# Altium schematic symbol library EurrackParts.SchLib: 8 symbols
Pins are listed as number, name and electrical type; pins without a type are passive.

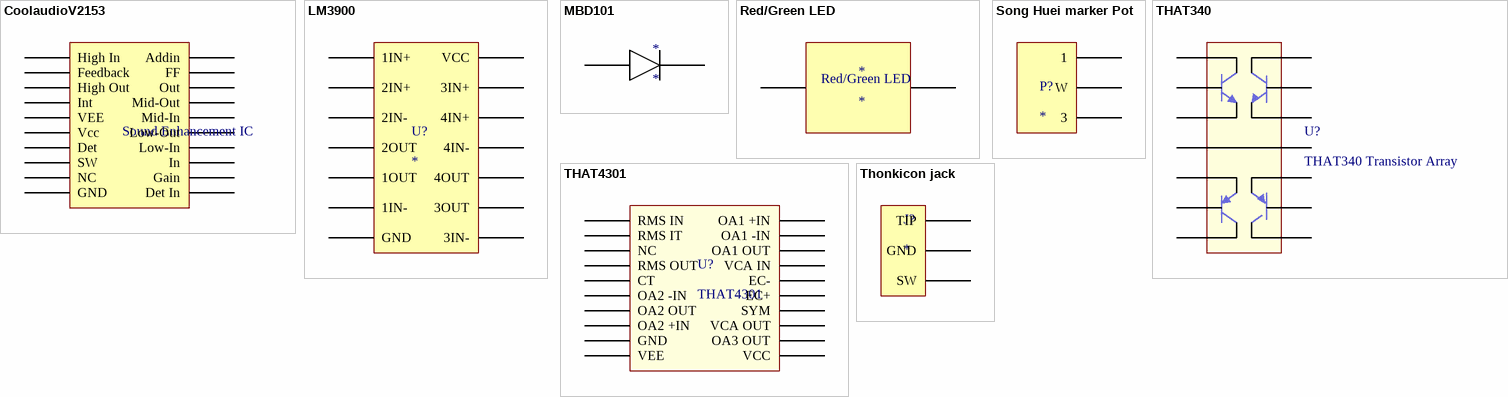
[diagram p0: symbols CoolaudioV2153 to Thonkicon jack]

## CoolaudioV2153
designator U?, comment Sound Enhancement IC
footprint SOIC20 - duplicate
pins: 1 High In, 2 Feedback, 3 High Out, 4 Int, 5 VEE, 6 Vcc, 7 Det, 8 SW, 9 NC, 10 GND, 11 Det In, 12 Gain, 13 In, 14 Low-In, 15 Low-Out, 16 Mid-In, 17 Mid-Out, 18 Out, 19 FF, 20 Addin

## LM3900
designator U?
footprint LM3900 (LM3900 SOIC)
pins: 1 1IN+, 2 2IN+, 3 2IN-, 4 2OUT, 5 1OUT, 6 1IN-, 7 GND, 8 3IN-, 9 3OUT, 10 4OUT, 11 4IN-, 12 4IN+, 13 3IN+, 14 VCC

## MBD101
designator *
pins: 1, 3

## Red/Green LED
designator *
pins: 1, 2

## Song Huei marker Pot
designator P?
footprint SonGueiPot
pins: 1, 2 W, 3

## THAT340
designator U?, comment THAT340 Transistor Array
pins: 1 C, 2 B, 3 E, 4 E, 5 E, 6 B, 7 C, 8 E, 9 B, 10 C, 11 E, 12 C, 13 B, 14 E

## THAT4301
designator U?
pins: 1 RMS IN, 2 RMS IT, 3 NC, 4 RMS OUT, 5 CT, 6 OA2 -IN, 7 OA2 OUT, 8 OA2 +IN, 9 GND, 10 VEE, 11 VCC, 12 OA3 OUT, 13 VCA OUT, 14 SYM, 15 EC+, 16 EC-, 17 VCA IN, 18 OA1 OUT, 19 OA1 -IN, 20 OA1 +IN

## Thonkicon jack
designator J?
footprint Thonkiconn Pot PJ301M (PJ301 Thonkicon Jack from Thonk)
pins: 1 GND, 2 SW, 3 TIP